# EAGLE library part HEADER-8 (library me433)
8-Pin Header Generic 8-pin header connector
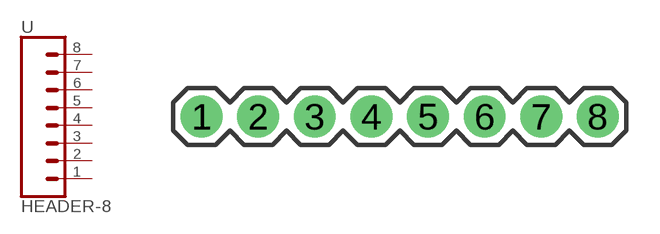
[diagram p0: symbol with the pads of CONN_1X08; footprint CONN_1X08]

Designator prefix -

## HEADER-8  [CONN_1X08]
1  1.  pas
2  2.  pas
3  3.  pas
4  4.  pas
5  5.  pas
6  6.  pas
7  7.  pas
8  8.  pas

## Footprint CONN_1X08 (pad centres in mm)
Plated Through Hole - 8 Pin * Pin Count : 8 * Pin Pitch : 0.1"
drill 1.016 pad 1.88: 1 0,0; 2 2.54,0; 3 5.08,0; 4 7.62,0; 5 10.16,0; 6 12.7,0; 7 15.24,0; 8 17.78,0